# Altium footprint library BLE.PcbLib: 22 footprints (part 1 of 2)
Each footprint in its own frame and in the unit in brackets; x right, y up, seen from the top. Pads: shape width x height; smd on the part's side, far side on the other; paste and mask are expansions set on the pad; w line width, h text height; cw(c..) or ccw(c..) is an arc to the next point about the centre after c.
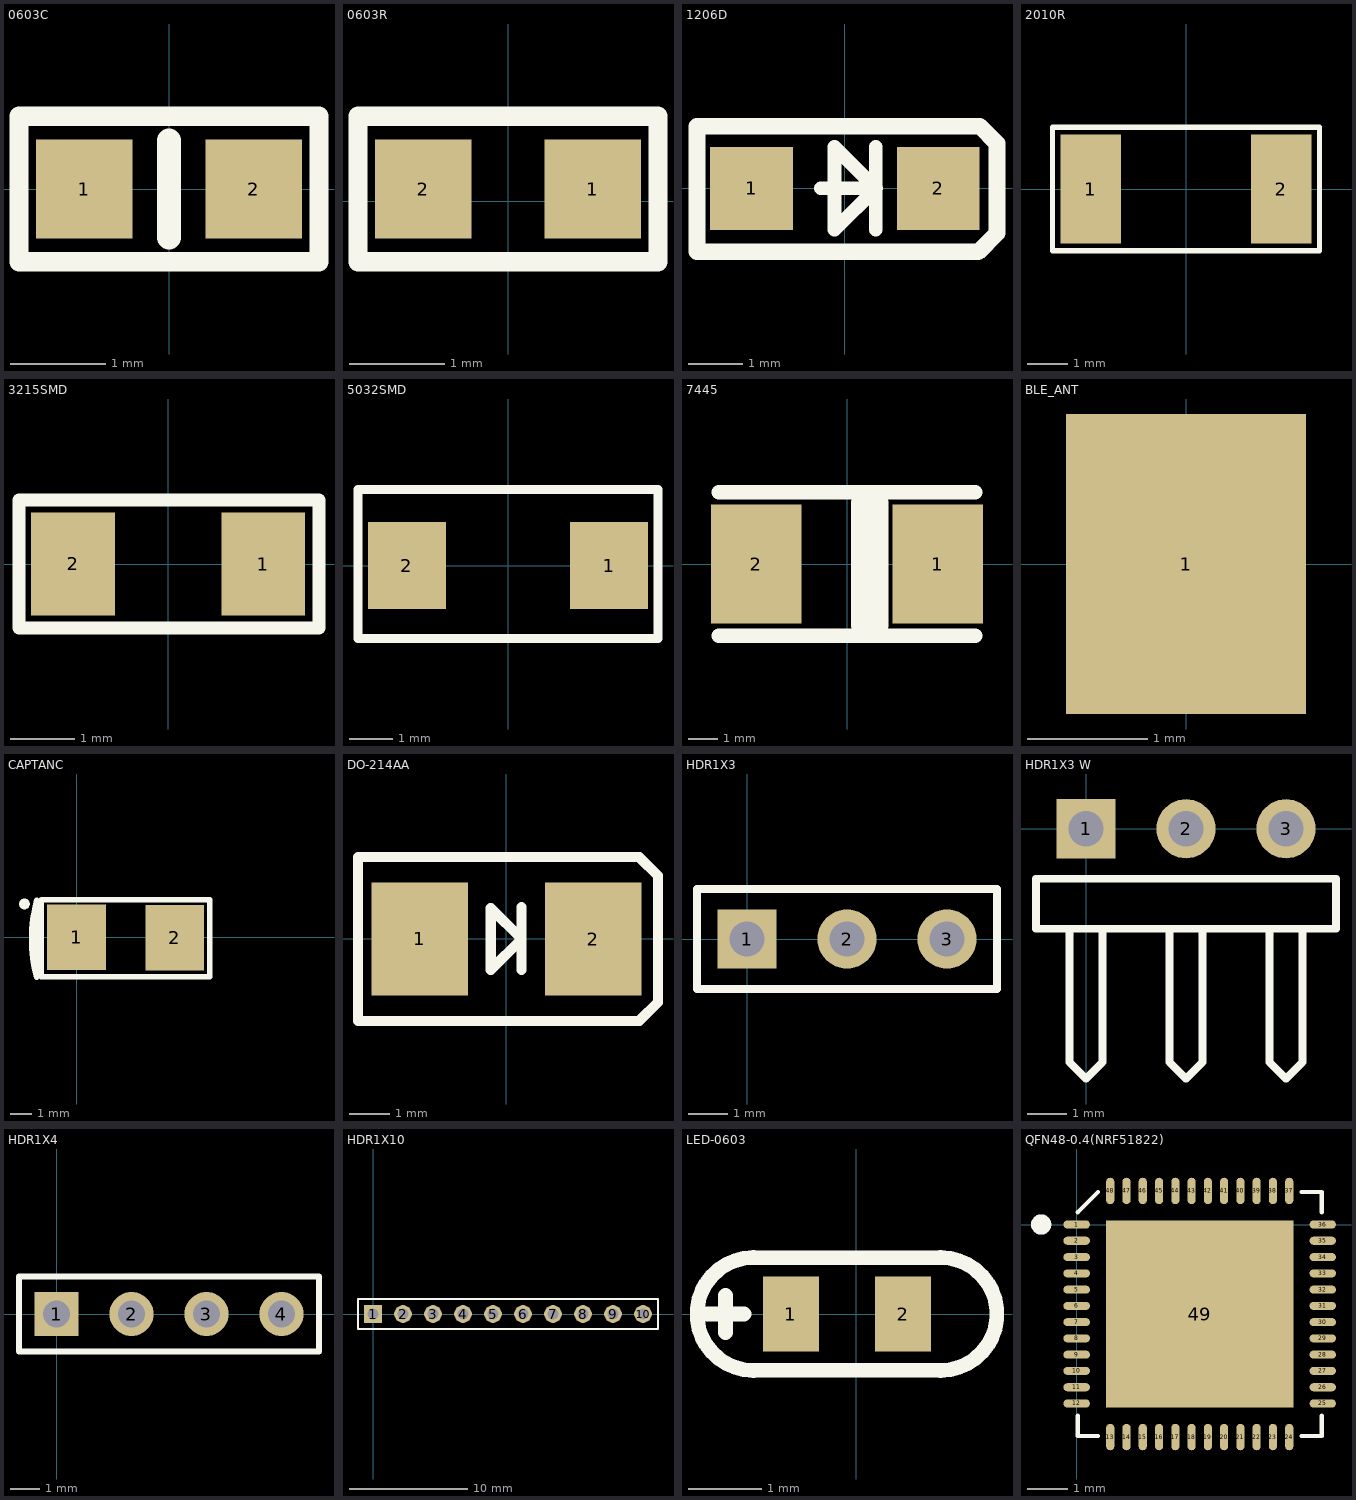
[diagram p0: the footprints below, top view; thin cyan lines are the x and y axes]

## 0603C [mil]
pads (2):
  rect 40x41 smd: 1(-35,0) 2(35,0)
Top Overlay:
  lines w8: -62,-30 62,-30 62,30 -62,30 -62,-30
  lines w10: 0,-20 0,20
3D body "User Library-cap_0603_lowprofile.STEP": height 23.62, standoff 0, extent -31.49,-15.75 31.5,15.75

## 0603R [mil]
pads (2):
  rect 40x41 smd: 1(35,5) 2(-35,5)
Top Overlay:
  lines w8: -62,-25 -62,35 62,35 62,-25 -62,-25
3D body "R0603.STEP": height 17.72, standoff 0, extent -31.5,-10.75 31.5,20.75

## 1206D [mil] "1206-Diode"
pads (2):
  rect 60x60 smd: 1(-67.5,0) 2(67.5,0)
Top Overlay:
  lines w10: -17.5,0 22.5,0 ; 22.35,-30 22.35,30 ; 22.5,0 -7.5,-30 -7.5,30 22.5,0
  lines w12: -107,-46 -107,45 97.5,45 110,32.5 110,-32.5 96.5,-46 -107,-46
3D body "SOD123.STEP": height -45, standoff -95, extent -72.83,-31.49 72.84,31.51

## 2010R [mm]
height 5.08
pads (2):
  rect 1.5x2.7 smd: 1(-2.349,0) 2(2.349,0)
Top Overlay:
  lines w0.127: -3.289,-1.524 -3.289,1.524 3.289,1.524 3.289,-1.524 -3.289,-1.524
3D body "User Library-R_2010.STEP": height 0.6, standoff 0, extent -2.5,-1.25 2.5,1.25

## 3215SMD [mm]
pads (2):
  rect 1.3x1.6 smd: 1(1.473,0) 2(-1.473,0)
Top Overlay:
  lines w0.203: -2.311,-0.991 2.337,-0.991 2.337,0.991 -2.311,0.991 -2.311,-0.991
3D body "SX3215.step": height 0.81, standoff 0, extent -1.6,-0.75 1.6,0.75

## 5032SMD [mm]
height 5.08
pads (2):
  rect 1.8x2 smd: 1(2.328,0) 2(-2.328,0)
Top Overlay:
  lines w0.203: -3.454,-1.676 -3.454,1.753 3.454,1.753 3.454,-1.676 -3.454,-1.676
3D body "5032.step": height 1.35, standoff 0, extent -2.475,-1.549 2.525,1.651

## 7445 [mil] "D型钽电容"
pads (2):
  rect 120x157.48 smd: 1(120,0) 2(-120,0)
Top Overlay:
  lines w19.68: -170,-95 170,-95 ; -170,95 170,95
  lines w50: 30,-80 30,80
3D body "CaseD_7343-31.step": height 110.24, standoff 0, extent -143.71,-84.65 143.69,84.64

## BLE_ANT [mm]
pads (1):
  rect 2x2.5 smd: 1(0,0)
3D body "User Library-AN9520.STEP": height 1.05, standoff 0, extent 0,-1.05 9.5,1.05

## CAPTANC [mm]
pads (3):
  rect 2.7x3 smd: 1(0,0) 2(4.502,-0.025)
  round 0.5 on Top Overlay: ""(-2.388,1.524)
Top Overlay:
  lines w0.254: -1.854,-1.678 -1.854,1.422 ; -1.827,-1.833 cw(c4.525,-0.081) -1.817,1.706 ; -1.626,-1.805 -1.626,1.702 -1.599,1.729 6.096,1.729 6.096,-1.802 -1.626,-1.805
3D body "User Library-AVX_C_CASE.STEP": height 2.7, standoff 0, extent -0.84,-1.802 5.26,1.548

## DO-214AA [mm]
pads (2):
  rect 2.4x2.8 smd: 1(-2.153,0.001) 2(2.153,-0.001)
Top Overlay:
  lines w0.254: 0.375,-0.762 0.375,0.787 ; 0.965,-2.033 -3.683,-2.033 -3.683,2.031 3.099,2.031 ; 1.01,-2.033 3.296,-2.033 3.759,-1.57 3.759,1.567 3.296,2.031 1.01,2.031 ; -0.387,-0.763 -0.387,0.761 0.375,-0.001 -0.387,-0.763
3D body "User Library-DO-214AA_SMB.STEP": height 2.2, standoff -0.05, extent -2.65,-1.85 2.65,1.85

## HDR1X3 [mm] "Connector; Header; 3 Position"
pads (3):
  rect 1.5x1.5 hole 0.9: 1(0,0)
  round 1.5 hole 0.9: 2(2.54,0) 3(5.08,0)
Top Overlay:
  lines w0.2: -1.27,-1.27 6.35,-1.27 6.35,1.27 -1.27,1.27 -1.27,-1.27

## HDR1X3 W [mm] "Connector; Header; 5 Position"
height 10.16
pads (3):
  rect 1.5x1.5 hole 0.9: 1(0,0)
  round 1.5 hole 0.9: 2(2.54,0) 3(5.08,0)
Top Overlay:
  lines w0.2: -0.423,-2.54 -0.423,-5.927 0,-6.35 0.423,-5.927 0.423,-2.54 ; 2.117,-2.54 2.117,-5.927 2.54,-6.35 2.963,-5.927 2.963,-2.54 ; 4.657,-2.54 4.657,-5.927 5.08,-6.35 5.503,-5.927 5.503,-2.54 ; -1.27,-2.54 6.35,-2.54 6.35,-1.27 -1.27,-1.27 -1.27,-2.54
3D body "User Library-Header_Male_RA_Low_3Pin.STEP": height 2.51, standoff -3, extent -1.245,-9.855 6.375,0.275

## HDR1X4 [mm] "Connector; Header; 4 Position"
pads (4):
  rect 1.5x1.5 hole 0.9: 1(0,0)
  round 1.5 hole 0.9: 2(2.54,0) 3(5.08,0) 4(7.62,0)
Top Overlay:
  lines w0.2: -1.27,-1.27 8.89,-1.27 8.89,1.27 -1.27,1.27 -1.27,-1.27

## HDR1X10 [mm] "Connector; Header; 10 Position"
pads (10):
  rect 1.5x1.5 hole 0.9: 1(0,0)
  round 1.5 hole 0.9: 2(2.54,0) 3(5.08,0) 4(7.62,0) 5(10.16,0) 6(12.7,0) 7(15.24,0) 8(17.78,0) 9(20.32,0) 10(22.86,0)
Top Overlay:
  lines w0.2: -1.27,-1.27 -1.27,1.27 0.635,1.27 24.13,1.27 24.13,-1.27 -1.27,-1.27

## LED-0603 [mil]
pads (2):
  rect 30x40 smd: 1(-35,0) 2(25,0)
Top Overlay:
  lines w7.87: -55,-30.14 cw(c-55,0) -55,30.14 ; -55,-30 45,-30 ; -55,30 45,30 ; 45,-30.14 ccw(c45,0) 45,30.14
  lines w8: -80,0 -60,0 ; -70,-10 -70,10
3D body "User Library-led_0603LED0603 green.STEP": height 23.62, standoff 0, extent -36.89,-15.75 26.9,15.75

## QFN48-0.4(NRF51822) [mm]
pads (49):
  oval 0.65x0.2 smd mask+0.05: 1(0,0) 2(0,-0.4) 3(0,-0.8) 4(0,-1.2) 5(0,-1.6) 6(0,-2) 7(0,-2.4) 8(0,-2.8) 9(0,-3.2) 10(0,-3.6) 11(0,-4) 12(0,-4.4) 25(6.05,-4.4) 26(6.05,-4) 27(6.05,-3.6) 28(6.05,-3.2) 29(6.05,-2.8) 30(6.05,-2.4) 31(6.05,-2) 32(6.05,-1.6) 33(6.05,-1.2) 34(6.05,-0.8) 35(6.05,-0.4) 36(6.05,0)
  oval 0.2x0.65 smd mask+0.05: 13(0.825,-5.225) 14(1.225,-5.225) 15(1.625,-5.225) 16(2.025,-5.225) 17(2.425,-5.225) 18(2.825,-5.225) 19(3.225,-5.225) 20(3.625,-5.225) 21(4.025,-5.225) 22(4.425,-5.225) 23(4.825,-5.225) 24(5.225,-5.225) 37(5.225,0.825) 38(4.825,0.825) 39(4.425,0.825) 40(4.025,0.825) 41(3.625,0.825) 42(3.225,0.825) 43(2.825,0.825) 44(2.425,0.825) 45(2.025,0.825) 46(1.625,0.825) 47(1.225,0.825) 48(0.825,0.825)
  rect 4.6x4.6 smd mask+0.05: 49(3.025,-2.2)
Top Overlay:
  circle w0.25: c-0.875,0 r0.125
  lines w0.102: 0.025,-4.7 0.025,-5.2 0.525,-5.2 ; 0.025,0.3 0.525,0.8 ; 5.525,-5.2 6.025,-5.2 6.025,-4.7 ; 5.525,0.8 6.025,0.8 6.025,0.3
Mechanical 15:
  lines w0.1: 2.525,-2.2 3.525,-2.2 ; 3.025,-2.7 3.025,-1.7
3D body "User Library-QFN48.STEP": height 0.85, standoff -0.02, extent 0,-5.202 6.04,0.838